# Altium footprint library MODULE_2717.PcbLib: 1 footprints
Each footprint in its own frame and in the unit in brackets; x right, y up, seen from the top. Pads: shape width x height; smd on the part's side, far side on the other; paste and mask are expansions set on the pad; w line width, h text height; cw(c..) or ccw(c..) is an arc to the next point about the centre after c.
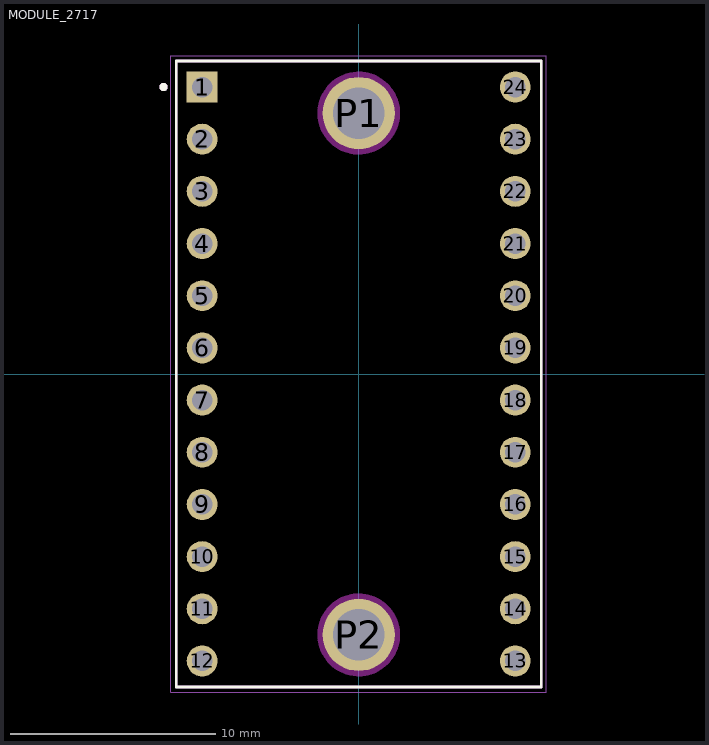
[diagram p0: the footprint, top view; thin cyan lines are the x and y axes]

## MODULE_2717 [mm]
height 2.7
pads (26):
  rect 1.508x1.508 / inner round 1.508 / far side rect 1.508x1.508 hole 1: 1(-7.62,13.97)
  round 1.508 hole 1: 2(-7.62,11.43) 3(-7.62,8.89) 4(-7.62,6.35) 5(-7.62,3.81) 6(-7.62,1.27) 7(-7.62,-1.27) 8(-7.62,-3.81) 9(-7.62,-6.35) 10(-7.62,-8.89) 11(-7.62,-11.43) 12(-7.62,-13.97) 13(7.62,-13.97) 14(7.62,-11.43) 15(7.62,-8.89) 16(7.62,-6.35) 17(7.62,-3.81) 18(7.62,-1.27) 19(7.62,1.27) 20(7.62,3.81) 21(7.62,6.35) 22(7.62,8.89) 23(7.62,11.43) 24(7.62,13.97)
  round 3.516 hole 2.5: P1(0,12.7) P2(0,-12.7)
Top Overlay:
  circle w0.2: c-9.5,13.97 r0.1
  lines w0.127: -8.89,-15.24 -8.89,15.24 8.89,15.24 8.89,-15.24 -8.89,-15.24
Keep-Out Layer:
  circle w2.032: c0,12.7 r1
  circle w2.032: c0,12.7 r1
  circle w2.032: c0,-12.7 r1
  circle w2.032: c0,-12.7 r1
Assembly Top:
  circle w0.2: c-9.5,13.97 r0.1
  lines w0.127: -8.89,-15.24 -8.89,15.24 8.89,15.24 8.89,-15.24 -8.89,-15.24
Courtyard Top:
  lines w0.05: -9.14,-15.49 -9.14,15.49 9.14,15.49 9.14,-15.49 -9.14,-15.49
3D body "step_temp.STEP": height 1.2, standoff -1.57, extent -9.017,-15.24 8.763,15.24